# Altium footprint library H520PT.PcbLib: 1 footprints
Each footprint in its own frame and in the unit in brackets; x right, y up, seen from the top. Pads: shape width x height; smd on the part's side, far side on the other; paste and mask are expansions set on the pad; w line width, h text height; cw(c..) or ccw(c..) is an arc to the next point about the centre after c.
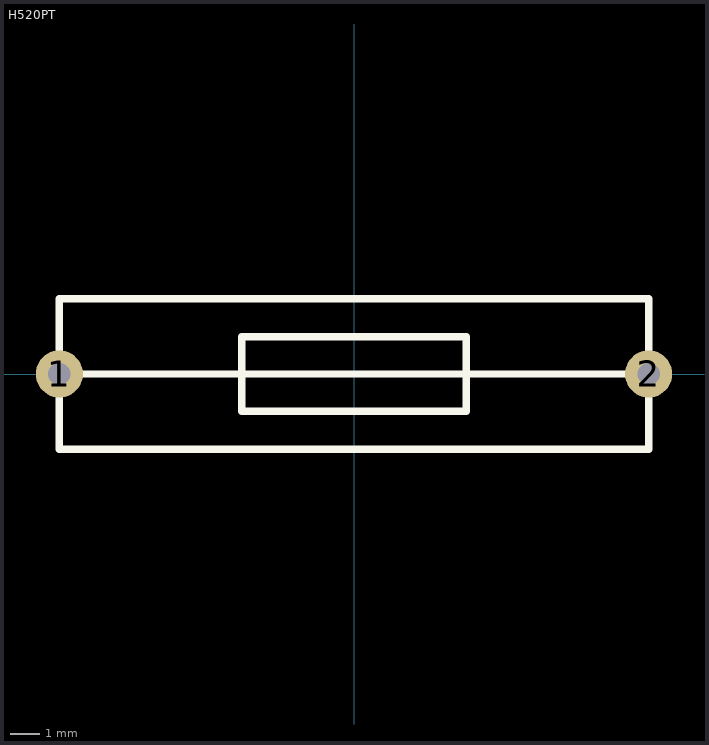
[diagram p0: the footprint, top view; thin cyan lines are the x and y axes]

## H520PT [mm]
height 5.2
pads (2):
  round 1.6 hole 0.762: 1(-10,0) 2(10,0)
Top Overlay:
  lines w0.254: -10,0 10,0 ; -10,-2.55 -10,2.55 10,2.55 10,-2.55 -10,-2.55 ; -3.81,-1.27 3.81,-1.27 3.81,1.27 -3.81,1.27 -3.81,-1.27
3D body "H520PT.STEP": height 5.2, standoff -14.8, extent -10.3,-2.6 10.3,2.6